# EAGLE library part 70553-0106 (library 70553-0109)
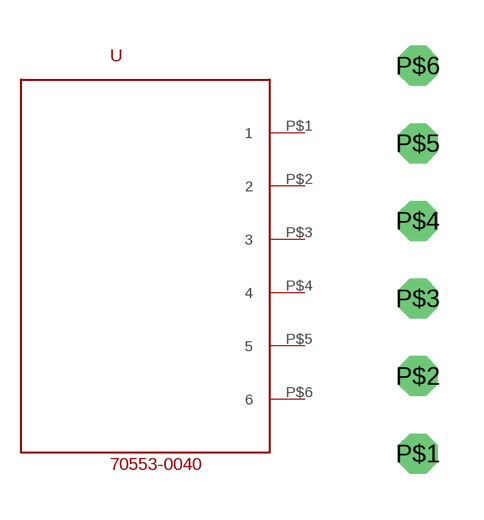
[diagram p0: symbol with the pads of 70553-0109; footprint 70553-0109]

Designator prefix -

## 70553-0106  [70553-0109]
P$1  1
P$2  2
P$3  3
P$4  4
P$5  5
P$6  6

## Footprint 70553-0109 (pad centres in mm)
drill 0.8 pad 1.09 octagon: P$1 5.08,-7.62; P$2 5.08,-5.08; P$3 5.08,-2.54; P$4 5.08,0; P$5 5.08,2.54; P$6 5.08,5.08